# EAGLE library part 615032149521 (library WR-MJ)
WR-MJ Cat 3 Modular Jacks – THT Characteristics Shieldingless and Shielded with EMI-Spring option Optional LEDs in various sequences Vertical and Horizontal orientation Stacked and assembled configurations Tray Packaging Properties PoE++ Compatible up to 100W (IEEE 802.3bt) UL and cULus-Certified UL94-V0 insulator material Ethernet Category 3 – Category 5 under conditions Applications Networks Internet of Things mart Buildings <https://www.we-online.com/components/media/o863419v209%20multi-WR-MJTH-615002138421.jpg> Details see: www.we-online.com/en/components/products/WR_MJ_MODULAR_JACKS_THT <www.we-online.com/catalog/WR_MJ_MODULAR_JACKS_THT/?utm_source=eagle_model&utm_medium=description_link&utm_campaign=eisos_eagle> Updated by Yingchun Shan 2020-01-06 2020(C) Würth Elektronik
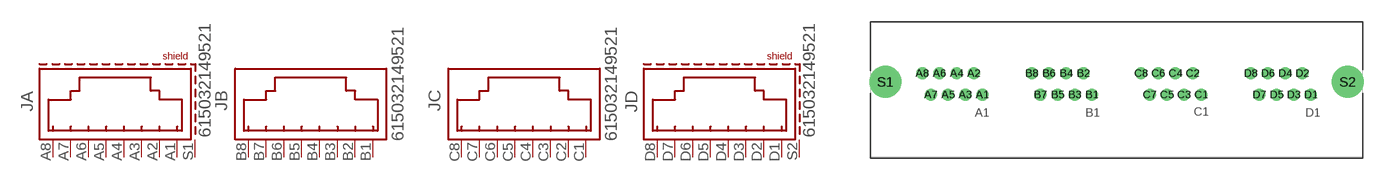
[diagram p11: symbol with the pads of 615032149521; footprint 615032149521]

Designator prefix J; gates A=8P8C_S D=8P8C_S B=8P8C_2 C=8P8C_2

## 615032149521 (APPLICATION-SYSTEM: CAT 3; DATASHEET-URL: https://www.we-online.com/redexpert/spec/615032149521?ae; EMI: No; LED: /; MOUNT: THT; PART-NUMBER: 615032149521; SIZE: Horizontal; TAB: Up; VALUE: 615032149521; XPXC: 8P8C)  [615032149521]
A1  A:1  pas
A2  A:2  pas
A3  A:3  pas
A4  A:4  pas
A5  A:5  pas
A6  A:6  pas
A7  A:7  pas
A8  A:8  pas
B1  B:1  pas
B2  B:2  pas
B3  B:3  pas
B4  B:4  pas
B5  B:5  pas
B6  B:6  pas
B7  B:7  pas
B8  B:8  pas
C1  C:1  pas
C2  C:2  pas
C3  C:3  pas
C4  C:4  pas
C5  C:5  pas
C6  C:6  pas
C7  C:7  pas
C8  C:8  pas
D1  D:1  pas
D2  D:2  pas
D3  D:3  pas
D4  D:4  pas
D5  D:5  pas
D6  D:6  pas
D7  D:7  pas
D8  D:8  pas
S1  A:SHIELD  pas
S2  D:SHIELD  pas

## Footprint 615032149521 (pad centres in mm)
WR-MJ Modular Jack Horizontal Plastic 8P8C Assembly Tab Up
drill 0.9: A1 -15.93,-0.57; A2 -16.95,1.97; A3 -17.97,-0.57; A4 -18.99,1.97; A5 -20.01,-0.57; A6 -21.03,1.97; A7 -22.05,-0.57; A8 -23.07,1.97; B1 -2.93,-0.57; B2 -3.95,1.97; B3 -4.97,-0.57; B4 -5.99,1.97; B5 -7.01,-0.57; B6 -8.03,1.97; B7 -9.05,-0.57; B8 -10.07,1.97; C1 10.05,-0.57; C2 9.03,1.97; C3 8.01,-0.57; C4 6.99,1.97; C5 5.97,-0.57; C6 4.95,1.97; C7 3.93,-0.57; C8 2.91,1.97; D1 23.07,-0.57; D2 22.05,1.97; D3 21.03,-0.57; D4 20.01,1.97; D5 18.99,-0.57; D6 17.97,1.97; D7 16.95,-0.57; D8 15.93,1.97
drill 2.8: S1 -27.45,0.97; S2 27.45,0.97